# Altium footprint library HAKATAYA.PcbLib: 227 footprints (part 14 of 15)
Each footprint in its own frame and in the unit in brackets; x right, y up, seen from the top. Pads: shape width x height; smd on the part's side, far side on the other; paste and mask are expansions set on the pad; w line width, h text height; cw(c..) or ccw(c..) is an arc to the next point about the centre after c.
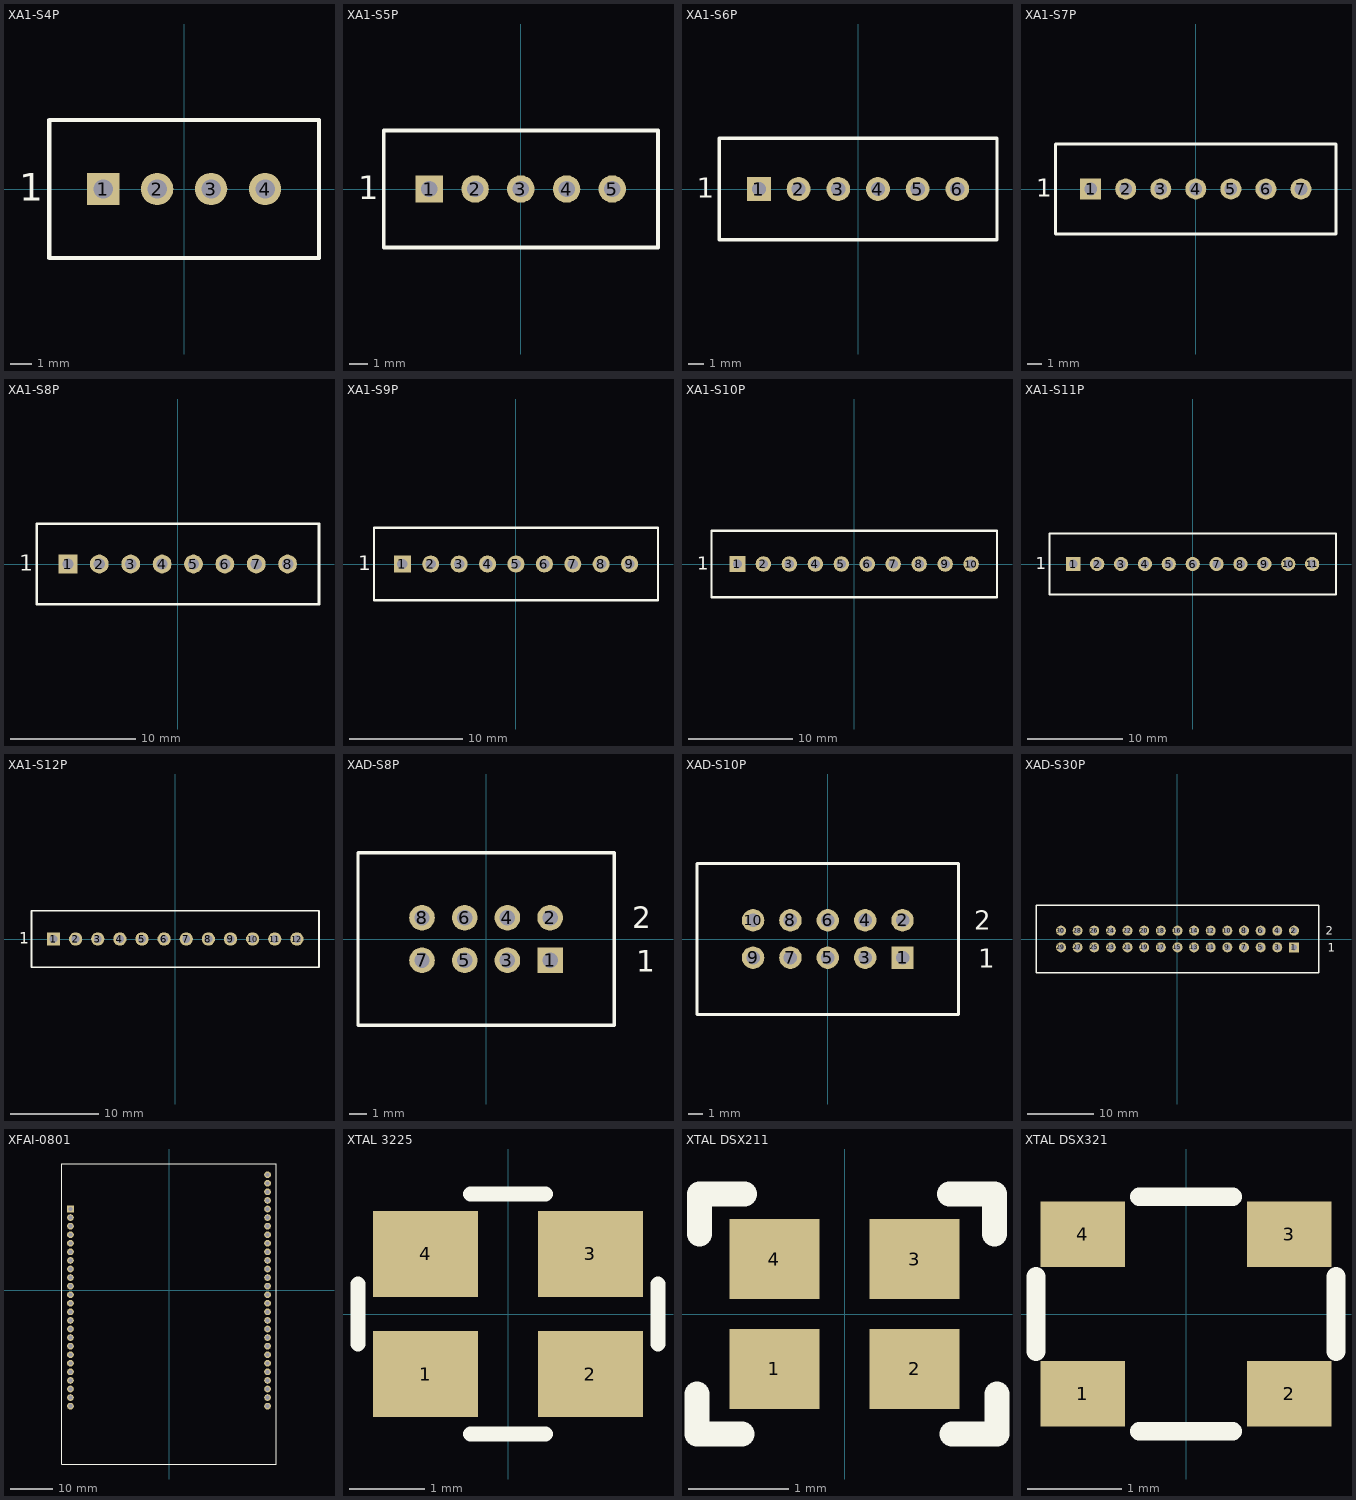
[diagram p13: the footprints below, top view; thin cyan lines are the x and y axes]

## XA1-S4P [mm] "JST XA CONNECTOR Pitch 2.5mm"
height 8.8
pads (5):
  round 1.2 on Drill Drawing: 0(-5.35,-1.6)
  rect 1.5x1.5 hole 0.9: 1(-3.75,0)
  round 1.5 hole 0.9: 2(-1.25,0) 3(1.25,0) 4(3.75,0)
Top Overlay:
  lines w0.2: -6.25,-3.2 6.25,-3.2 6.25,3.2 -6.25,3.2 -6.25,-3.2
  text "1" at -7.65,-0.55 h1.27

## XA1-S5P [mm] "JST XA CONNECTOR Pitch 2.5mm"
height 8.8
pads (6):
  round 1.2 on Drill Drawing: 0(-6.6,-1.6)
  rect 1.5x1.5 hole 0.9: 1(-5,0)
  round 1.5 hole 0.9: 2(-2.5,0) 3(0,0) 4(2.5,0) 5(5,0)
Top Overlay:
  lines w0.2: -7.5,-3.2 7.5,-3.2 7.5,3.2 -7.5,3.2 -7.5,-3.2
  text "1" at -8.9,-0.55 h1.27

## XA1-S6P [mm] "JST XA CONNECTOR Pitch 2.5mm"
height 8.8
pads (7):
  round 1.2 on Drill Drawing: 0(-7.85,-1.6)
  rect 1.5x1.5 hole 0.9: 1(-6.25,0)
  round 1.5 hole 0.9: 2(-3.75,0) 3(-1.25,0) 4(1.25,0) 5(3.75,0) 6(6.25,0)
Top Overlay:
  lines w0.2: -8.75,-3.2 8.75,-3.2 8.75,3.2 -8.75,3.2 -8.75,-3.2
  text "1" at -10.15,-0.55 h1.27

## XA1-S7P [mm] "JST XA CONNECTOR Pitch 2.5mm"
height 8.8
pads (8):
  round 1.2 on Drill Drawing: 0(-9.1,-1.6)
  rect 1.5x1.5 hole 0.9: 1(-7.5,0)
  round 1.5 hole 0.9: 2(-5,0) 3(-2.5,0) 4(0,0) 5(2.5,0) 6(5,0) 7(7.5,0)
Top Overlay:
  lines w0.2: -10,-3.2 -10,3.2 10,3.2 10,-3.2 -10,-3.2
  text "1" at -11.4,-0.55 h1.27

## XA1-S8P [mm] "JST XA CONNECTOR Pitch 2.5mm"
height 8.8
pads (9):
  round 1.2 on Drill Drawing: 0(-10.35,-1.6)
  rect 1.5x1.5 hole 0.9: 1(-8.75,0)
  round 1.5 hole 0.9: 2(-6.25,0) 3(-3.75,0) 4(-1.25,0) 5(1.25,0) 6(3.75,0) 7(6.25,0) 8(8.75,0)
Top Overlay:
  lines w0.2: -11.25,-3.2 11.25,-3.2 11.25,3.2 -11.25,3.2 -11.25,-3.2
  text "1" at -12.65,-0.55 h1.27

## XA1-S9P [mm] "JST XA CONNECTOR Pitch 2.5mm"
height 8.8
pads (10):
  round 1.2 on Drill Drawing: 0(-11.6,-1.6)
  rect 1.5x1.5 hole 0.9: 1(-10,0)
  round 1.5 hole 0.9: 2(-7.5,0) 3(-5,0) 4(-2.5,0) 5(0,0) 6(2.5,0) 7(5,0) 8(7.5,0) 9(10,0)
Top Overlay:
  lines w0.2: -12.5,-3.2 -12.5,3.2 12.5,3.2 12.5,-3.2 -12.5,-3.2
  text "1" at -13.9,-0.55 h1.27

## XA1-S10P [mm] "JST XA CONNECTOR Pitch 2.5mm"
height 8.8
pads (11):
  round 1.2 on Drill Drawing: 0(-12.85,-1.6)
  rect 1.5x1.5 hole 0.9: 1(-11.25,0)
  round 1.5 hole 0.9: 2(-8.75,0) 3(-6.25,0) 4(-3.75,0) 5(-1.25,0) 6(1.25,0) 7(3.75,0) 8(6.25,0) 9(8.75,0) 10(11.25,0)
Top Overlay:
  lines w0.2: -13.75,-3.2 13.75,-3.2 13.75,3.2 -13.75,3.2 -13.75,-3.2
  text "1" at -15.15,-0.55 h1.27

## XA1-S11P [mm] "JST XA CONNECTOR Pitch 2.5mm"
height 8.8
pads (12):
  round 1.2 on Drill Drawing: 0(-14.1,-1.6)
  rect 1.5x1.5 hole 0.9: 1(-12.5,0)
  round 1.5 hole 0.9: 2(-10,0) 3(-7.5,0) 4(-5,0) 5(-2.5,0) 6(0,0) 7(2.5,0) 8(5,0) 9(7.5,0) 10(10,0) 11(12.5,0)
Top Overlay:
  lines w0.2: -15,-3.2 15,-3.2 15,3.2 -15,3.2 -15,-3.2
  text "1" at -16.4,-0.55 h1.27

## XA1-S12P [mm] "JST XA CONNECTOR Pitch 2.5mm"
height 8.8
pads (13):
  round 1.2 on Drill Drawing: 0(-15.35,-1.6)
  rect 1.5x1.5 hole 0.9: 1(-13.75,0)
  round 1.5 hole 0.9: 2(-11.25,0) 3(-8.75,0) 4(-6.25,0) 5(-3.75,0) 6(-1.25,0) 7(1.25,0) 8(3.75,0) 9(6.25,0) 10(8.75,0) 11(11.25,0) 12(13.75,0)
Top Overlay:
  lines w0.2: -16.25,-3.2 16.25,-3.2 16.25,3.2 -16.25,3.2 -16.25,-3.2
  text "1" at -17.65,-0.55 h1.27

## XAD-S8P [mm] "JST XA CONNECTOR Pitch 2.5mm"
height 10.1
pads (9):
  round 1.1 on Drill Drawing: 0(5.45,-3.05)
  rect 1.5x1.5 hole 0.9: 1(3.75,-1.25)
  round 1.5 hole 0.9: 2(3.75,1.25) 3(1.25,-1.25) 4(1.25,1.25) 5(-1.25,-1.25) 6(-1.25,1.25) 7(-3.75,-1.25) 8(-3.75,1.25)
Top Overlay:
  lines w0.2: -7.5,-5.05 -7.5,5.05 7.5,5.05 7.5,-5.05 -7.5,-5.05
  text "2" at 8.55,0.625 h1.27
  text "1" at 8.8,-1.925 h1.27

## XAD-S10P [mm] "JST XA CONNECTOR Pitch 2.5mm"
height 10.1
pads (11):
  round 1.1 on Drill Drawing: 0(6.7,-3.05)
  rect 1.5x1.5 hole 0.9: 1(5,-1.25)
  round 1.5 hole 0.9: 2(5,1.25) 3(2.5,-1.25) 4(2.5,1.25) 5(0,-1.25) 6(0,1.25) 7(-2.5,-1.25) 8(-2.5,1.25) 9(-5,-1.25) 10(-5,1.25)
Top Overlay:
  lines w0.2: -8.75,-5.05 8.75,-5.05 8.75,5.05 -8.75,5.05 -8.75,-5.05
  text "2" at 9.8,0.625 h1.27
  text "1" at 10.05,-1.925 h1.27

## XAD-S30P [mm] "JST XA CONNECTOR Pitch 2.5mm"
height 10.1
pads (31):
  round 1.1 on Drill Drawing: 0(19.2,-3.05)
  rect 1.5x1.5 hole 0.9: 1(17.5,-1.25)
  round 1.5 hole 0.9: 2(17.5,1.25) 3(15,-1.25) 4(15,1.25) 5(12.5,-1.25) 6(12.5,1.25) 7(10,-1.25) 8(10,1.25) 9(7.5,-1.25) 10(7.5,1.25) 11(5,-1.25) 12(5,1.25) 13(2.5,-1.25) 14(2.5,1.25) 15(0,-1.25) 16(0,1.25) 17(-2.5,-1.25) 18(-2.5,1.25) 19(-5,-1.25) 20(-5,1.25) 21(-7.5,-1.25) 22(-7.5,1.25) 23(-10,-1.25) 24(-10,1.25) 25(-12.5,-1.25) 26(-12.5,1.25) 27(-15,-1.25) 28(-15,1.25) 29(-17.5,-1.25) 30(-17.5,1.25)
Top Overlay:
  lines w0.2: -21.25,-5.05 -21.25,5.05 21.25,5.05 21.25,-5.05 -21.25,-5.05
  text "1" at 22.55,-1.925 h1.27
  text "2" at 22.3,0.625 h1.27

## XFAI-0801 [mm]
pads (52):
  rect 1.575x1.575 hole 0.89: 1(-23,19)
  round 1.575 hole 0.89: 2(-23,17) 3(-23,15) 4(-23,13) 5(-23,11) 6(-23,9) 7(-23,7) 8(-23,5) 9(-23,3) 10(-23,1) 11(-23,-1) 12(-23,-3) 13(-23,-5) 14(-23,-7) 15(-23,-9) 16(-23,-11) 17(-23,-13) 18(-23,-15) 19(-23,-17) 20(-23,-19) 21(-23,-21) 22(-23,-23) 23(-23,-25) 24(-23,-27) 25(23,-27) 26(23,-25) 27(23,-23) 28(23,-21) 29(23,-19) 30(23,-17) 31(23,-15) 32(23,-13) 33(23,-11) 34(23,-9) 35(23,-7) 36(23,-5) 37(23,-3) 38(23,-1) 39(23,1) 40(23,3) 41(23,5) 42(23,7) 43(23,9) 44(23,11) 45(23,13) 46(23,15) 47(23,17) 48(23,19) 49(23,21) 50(23,23) 51(23,25) 52(23,27)
Top Overlay:
  lines w0.254: -25,-40.5 25,-40.5 25,29.5 -25,29.5 -25,-40.5

## XTAL 3225 [mm]
pads (4):
  rect 1.4x1.15 smd: 1(-1.1,-0.8) 2(1.1,-0.8) 3(1.1,0.8) 4(-1.1,0.8)
Top Overlay:
  lines w0.2: -2,-0.4 -2,0.4 ; -0.5,-1.6 0.5,-1.6 ; -0.5,1.6 0.5,1.6 ; 2,-0.4 2,0.4

## XTAL DSX211 [mm] "2.0 X 1.6mm"
height 0.65
pads (4):
  rect 0.9x0.8 smd: 1(-0.7,-0.55) 2(0.7,-0.55) 3(0.7,0.55) 4(-0.7,0.55)
Top Overlay:
  lines w0.254: -1.475,-0.8 -1.475,-1.2 -1.025,-1.2 ; -1.45,0.8 -1.45,1.2 -1,1.2 ; 1.05,1.2 1.5,1.2 1.5,0.8 ; 1.075,-1.2 1.525,-1.2 1.525,-0.8

## XTAL DSX321 [mm] "3.2 x 2.5"
height 0.85
pads (4):
  rect 0.9x0.7 smd: 1(-1.1,-0.85) 2(1.1,-0.85) 3(1.1,0.85) 4(-1.1,0.85)
Top Overlay:
  lines w0.2: -1.6,-0.4 -1.6,0.4 ; -0.5,-1.25 0.5,-1.25 ; -0.5,1.25 0.5,1.25 ; 1.6,-0.4 1.6,0.4